# EAGLE library part LTC6088 (library analog)
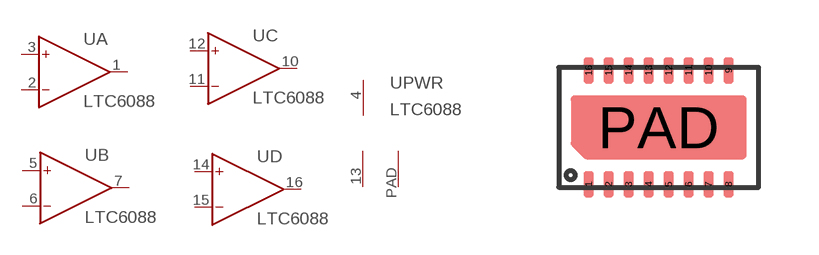
[diagram p3: symbol with the pads of DFN16_5X3MM; footprint DFN16_5X3MM]

Designator prefix -; gates A=OP B=OP C=OP D=OP PWR=PWR+-PAD

## LTC6088  [DFN16_5X3MM]
1  A:OUT  out
2  A:IN-  in
3  A:IN+  in
4  PWR:V+  pwr
5  B:IN+  in
6  B:IN-  in
7  B:OUT  out
10  C:OUT  out
11  C:IN-  in
12  C:IN+  in
13  PWR:V-  pwr
14  D:IN+  in
15  D:IN-  in
16  D:OUT  out
PAD  PWR:PAD  pwr

## Footprint DFN16_5X3MM (pad centres in mm)
smd 0.25 x 0.65: 1 -1.75,-1.425; 2 -1.25,-1.425; 3 -0.75,-1.425; 4 -0.25,-1.425; 5 0.25,-1.425; 6 0.75,-1.425; 7 1.25,-1.425; 8 1.75,-1.425; 9 1.75,1.425; 10 1.25,1.425; 11 0.75,1.425; 12 0.25,1.425; 13 -0.25,1.425; 14 -0.75,1.425; 15 -1.25,1.425; 16 -1.75,1.425
smd 3.5 x 1.5: PAD 0,0